# Altium schematic symbol library MPL3115A2.SchLib: 1 symbol
Pins are listed as number, name and electrical type; pins without a type are passive.

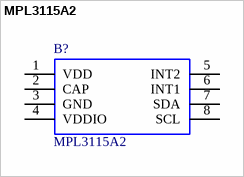
[diagram p0: symbol MPL3115A2]

## MPL3115A2
designator B?
MPL3115A2, Absolute Pressure Sensor, 110kPa 0.9  1 V Output, 8-Pin LGA; Manufacturer_Name: Nexperia; Geometry.Height: mm; Supplier_Name: RS; RS Part Number: 7500841; Manufacturer_Part_Number: MPL3115A2; Allied_Number: *; Other Part Number: *; Datasheet Link: http://uk.rs-online.com/web/p/products/7500841; 3D Package: *
footprint LGA-8
pins: 1 VDD, 2 CAP, 3 GND, 4 VDDIO, 5 INT2, 6 INT1, 7 SDA, 8 SCL